# EAGLE library part CC2420 (library CPSBoard)
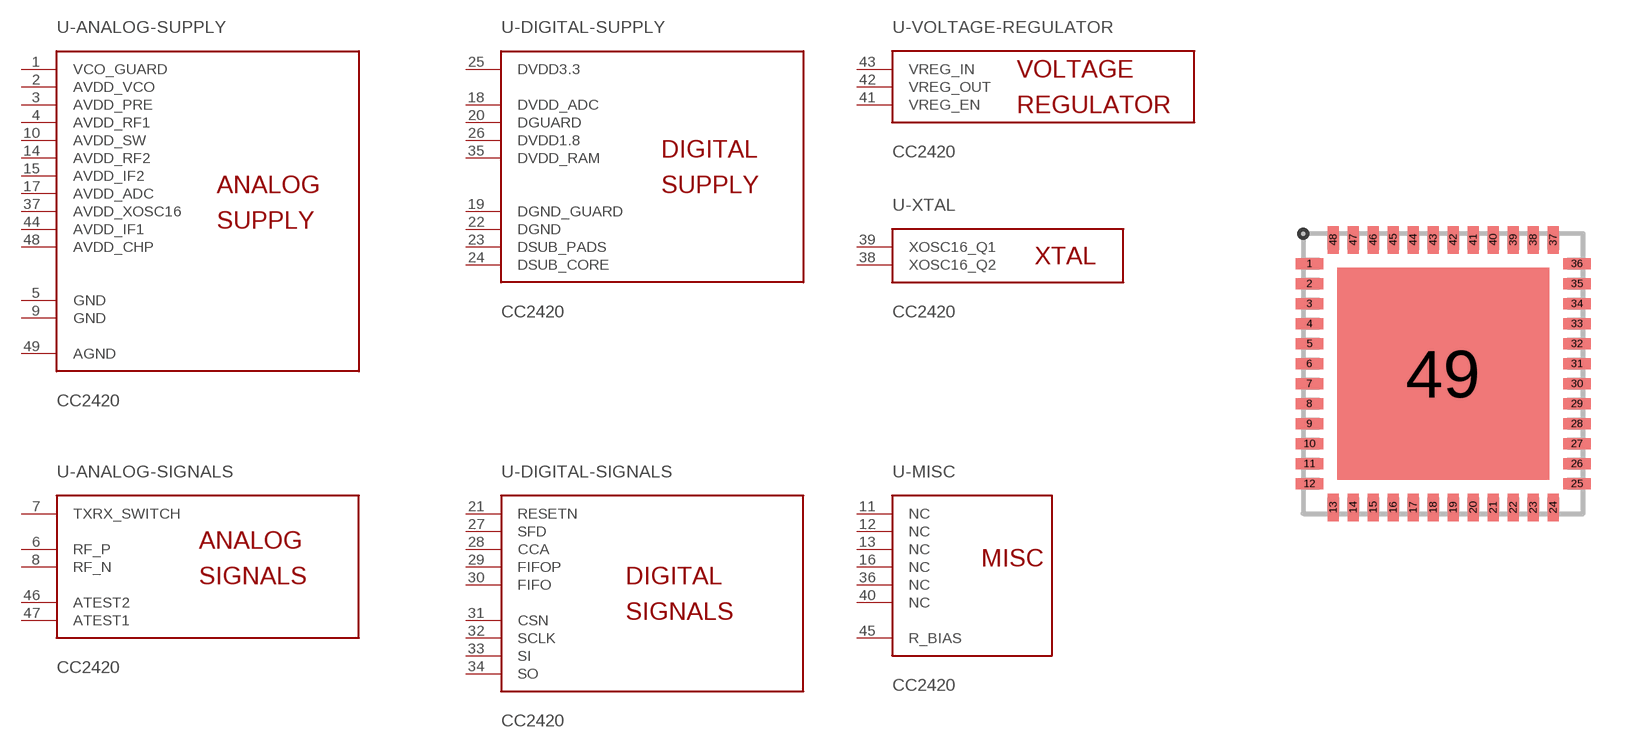
[diagram p7: symbol with the pads of VQFN-48; footprint VQFN-48]

Designator prefix -; gates -ANALOG-SUPPLY=CC2420-ANALOGSUPPLY -ANALOG-SIGNALS=CC2420-ANALOGSIGNALS -DIGITAL-SIGNALS=CC2420-DIGITALSIGNALS -DIGITAL-SUPPLY=CC2420-DIGITALSUPPLY -MISC=CC2420-MISC -VOLTAGE-REGULATOR=CC2420-VREG -XTAL=CC2420-XTAL

## CC2420  [VQFN-48]
1  -ANALOG-SUPPLY:VCO_GUARD  sup
2  -ANALOG-SUPPLY:AVDD_VCO  sup
3  -ANALOG-SUPPLY:AVDD_PRE  sup
4  -ANALOG-SUPPLY:AVDD_RF1  sup
5  -ANALOG-SUPPLY:GND  sup
6  -ANALOG-SIGNALS:RF_P
7  -ANALOG-SIGNALS:TXRX_SWITCH  in
8  -ANALOG-SIGNALS:RF_N
9  -ANALOG-SUPPLY:GND  sup
10  -ANALOG-SUPPLY:AVDD_SW  sup
11  -MISC:NC  nc
12  -MISC:NC  nc
13  -MISC:NC  nc
14  -ANALOG-SUPPLY:AVDD_RF2  sup
15  -ANALOG-SUPPLY:AVDD_IF2  sup
16  -MISC:NC  nc
17  -ANALOG-SUPPLY:AVDD_ADC  sup
18  -DIGITAL-SUPPLY:DVDD_ADC  sup
19  -DIGITAL-SUPPLY:DGND_GUARD  sup
20  -DIGITAL-SUPPLY:DGUARD  sup
21  -DIGITAL-SIGNALS:RESETN  out
22  -DIGITAL-SUPPLY:DGND  sup
23  -DIGITAL-SUPPLY:DSUB_PADS  sup
24  -DIGITAL-SUPPLY:DSUB_CORE  sup
25  -DIGITAL-SUPPLY:DVDD3.3  sup
26  -DIGITAL-SUPPLY:DVDD1.8  sup
27  -DIGITAL-SIGNALS:SFD  out
28  -DIGITAL-SIGNALS:CCA  out
29  -DIGITAL-SIGNALS:FIFOP  out
30  -DIGITAL-SIGNALS:FIFO  out
31  -DIGITAL-SIGNALS:CSN  in
32  -DIGITAL-SIGNALS:SCLK  in
33  -DIGITAL-SIGNALS:SI  in
34  -DIGITAL-SIGNALS:SO  out
35  -DIGITAL-SUPPLY:DVDD_RAM  sup
36  -MISC:NC  nc
37  -ANALOG-SUPPLY:AVDD_XOSC16  sup
38  -XTAL:XOSC16_Q2
39  -XTAL:XOSC16_Q1
40  -MISC:NC  nc
41  -VOLTAGE-REGULATOR:VREG_EN
42  -VOLTAGE-REGULATOR:VREG_OUT  sup
43  -VOLTAGE-REGULATOR:VREG_IN  sup
44  -ANALOG-SUPPLY:AVDD_IF1  sup
45  -MISC:R_BIAS  out
46  -ANALOG-SIGNALS:ATEST2
47  -ANALOG-SIGNALS:ATEST1
48  -ANALOG-SUPPLY:AVDD_CHP  sup
49  -ANALOG-SUPPLY:AGND  sup

## Footprint VQFN-48 (pad centres in mm)
VQFN-48 48-pin VQFN package with exposed pad.
smd 0.69 x 0.28: 1 -3.345,2.75; 2 -3.345,2.25; 3 -3.345,1.75; 4 -3.345,1.25; 5 -3.345,0.75; 6 -3.345,0.25; 7 -3.345,-0.25; 8 -3.345,-0.75; 9 -3.345,-1.25; 10 -3.345,-1.75; 11 -3.345,-2.25; 12 -3.345,-2.75; 25 3.345,-2.75; 26 3.345,-2.25; 27 3.345,-1.75; 28 3.345,-1.25; 29 3.345,-0.75; 30 3.345,-0.25; 31 3.345,0.25; 32 3.345,0.75; 33 3.345,1.25; 34 3.345,1.75; 35 3.345,2.25; 36 3.345,2.75
smd 0.28 x 0.69: 13 -2.75,-3.345; 14 -2.25,-3.345; 15 -1.75,-3.345; 16 -1.25,-3.345; 17 -0.75,-3.345; 18 -0.25,-3.345; 19 0.25,-3.345; 20 0.75,-3.345; 21 1.25,-3.345; 22 1.75,-3.345; 23 2.25,-3.345; 24 2.75,-3.345; 37 2.75,3.345; 38 2.25,3.345; 39 1.75,3.345; 40 1.25,3.345; 41 0.75,3.345; 42 0.25,3.345; 43 -0.25,3.345; 44 -0.75,3.345; 45 -1.25,3.345; 46 -1.75,3.345; 47 -2.25,3.345; 48 -2.75,3.345
smd 5.3 x 5.3: 49 0,0